# Altium footprint library XSDR.PcbLib: 30 footprints (part 1 of 2)
Each footprint in its own frame and in the unit in brackets; x right, y up, seen from the top. Pads: shape width x height; smd on the part's side, far side on the other; paste and mask are expansions set on the pad; w line width, h text height; cw(c..) or ccw(c..) is an arc to the next point about the centre after c.
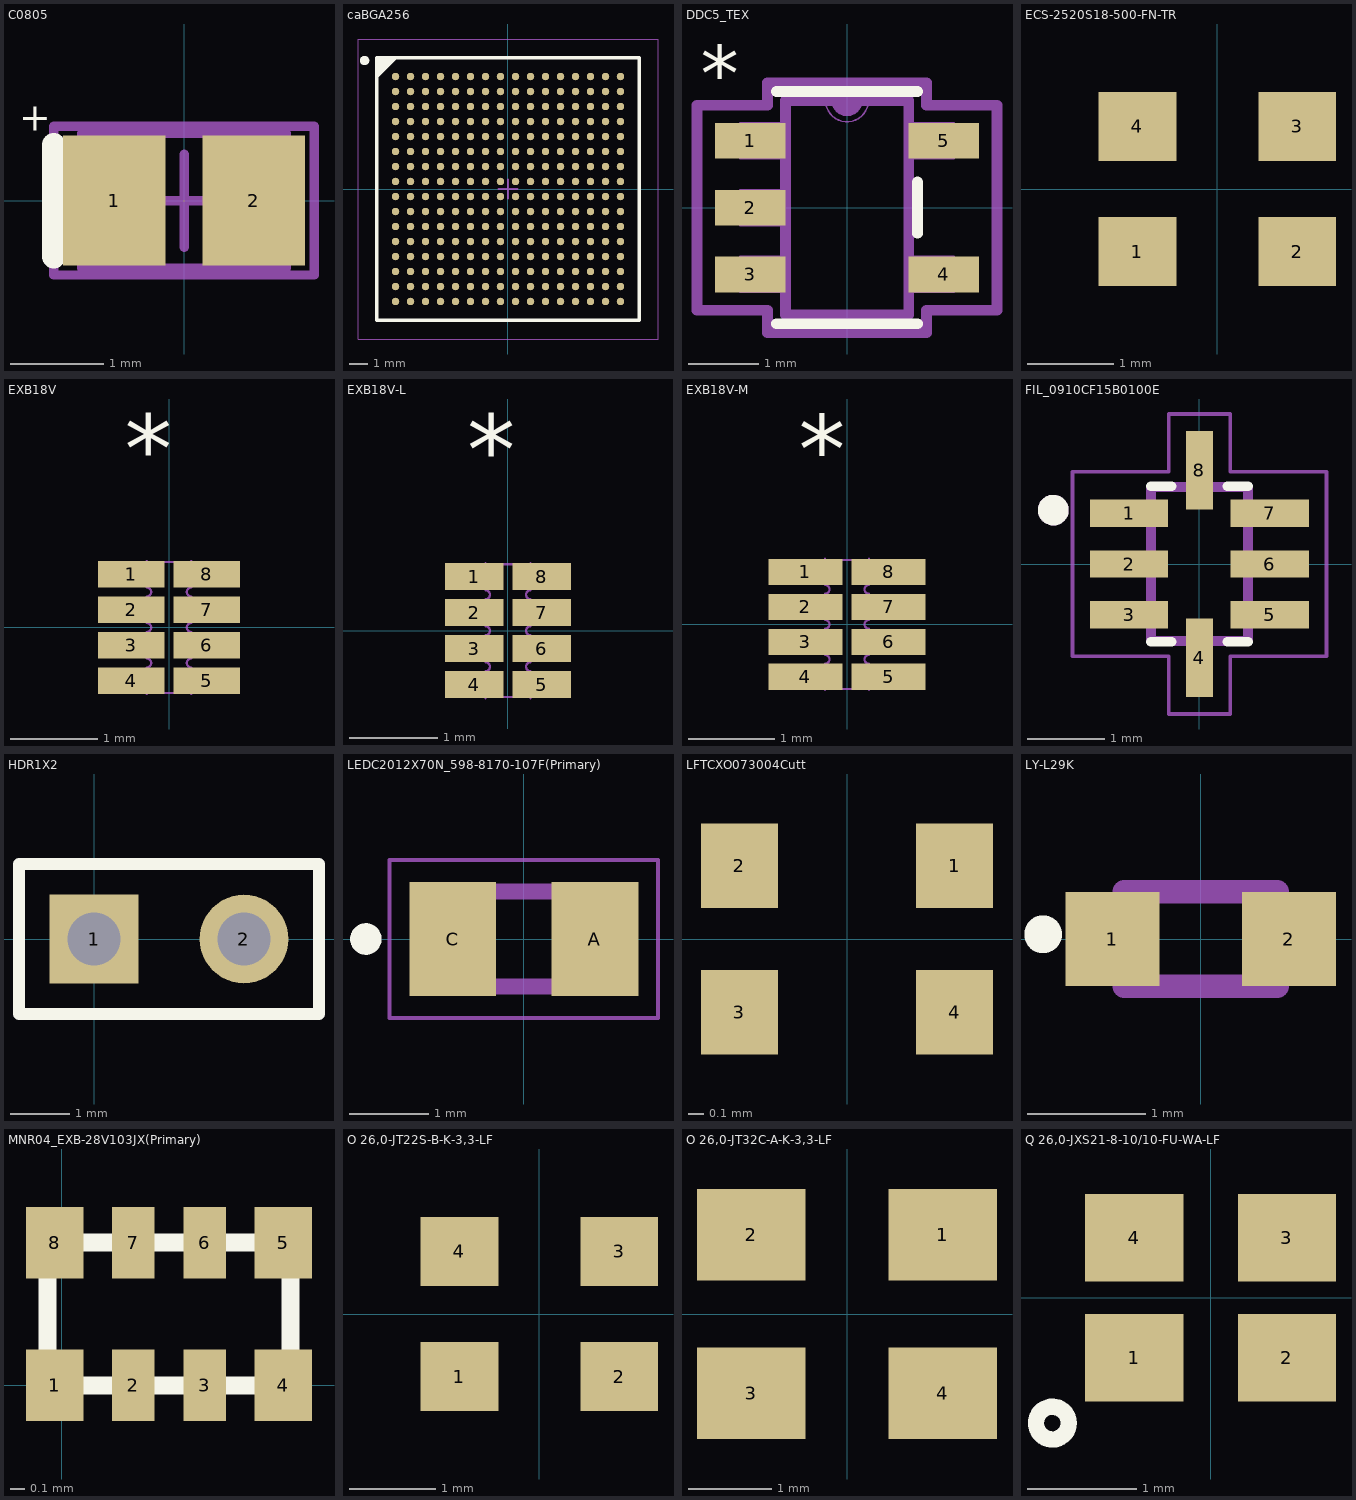
[diagram p0: the footprints below, top view; thin cyan lines are the x and y axes]

## C0805 [mm] "Chip Capacitor, Body 2.0x1.3mm, IPC High Density"
height 1.4
pads (2):
  rect 1.1x1.4 smd: 1(-0.75,0) 2(0.75,0)
Top Overlay:
  lines w0.254: -1.4,-0.6 -1.4,0.6
  text "+" at -1.775,0.75 h0.3
Mechanical 13:
  lines w0.1: -1.1,-0.725 1.1,-0.725 1.1,0.725 -1.1,0.725 -1.1,-0.725
Mechanical 15:
  lines w0.1: -0.5,0 0.5,0 ; 0,-0.5 0,0.5 ; -1.4,-0.8 1.4,-0.8 1.4,0.8 -1.4,0.8 -1.4,-0.8
3D body: height 1.4, standoff 0, extent -1.1,-0.725 1.1,0.725

## caBGA256 [mm] "256-Ball Chip Array Ball Grid Array"
height 1.7
pads (256):
  round 0.4 smd: A1(-6,6) A2(-5.2,6) A3(-4.4,6) A4(-3.6,6) A5(-2.8,6) A6(-2,6) A7(-1.2,6) A8(-0.4,6) A9(0.4,6) A10(1.2,6) A11(2,6) A12(2.8,6) A13(3.6,6) A14(4.4,6) A15(5.2,6) A16(6,6) B1(-6,5.2) B2(-5.2,5.2) B3(-4.4,5.2) B4(-3.6,5.2) B5(-2.8,5.2) B6(-2,5.2) B7(-1.2,5.2) B8(-0.4,5.2) B9(0.4,5.2) B10(1.2,5.2) B11(2,5.2) B12(2.8,5.2) B13(3.6,5.2) B14(4.4,5.2) B15(5.2,5.2) B16(6,5.2) C1(-6,4.4) C2(-5.2,4.4) C3(-4.4,4.4) C4(-3.6,4.4) C5(-2.8,4.4) C6(-2,4.4) C7(-1.2,4.4) C8(-0.4,4.4) C9(0.4,4.4) C10(1.2,4.4) C11(2,4.4) C12(2.8,4.4) C13(3.6,4.4) C14(4.4,4.4) C15(5.2,4.4) C16(6,4.4) D1(-6,3.6) D2(-5.2,3.6) D3(-4.4,3.6) D4(-3.6,3.6) D5(-2.8,3.6) D6(-2,3.6) D7(-1.2,3.6) D8(-0.4,3.6) D9(0.4,3.6) D10(1.2,3.6) D11(2,3.6) D12(2.8,3.6) D13(3.6,3.6) D14(4.4,3.6) D15(5.2,3.6) D16(6,3.6) E1(-6,2.8) E2(-5.2,2.8) E3(-4.4,2.8) E4(-3.6,2.8) E5(-2.8,2.8) E6(-2,2.8) E7(-1.2,2.8) E8(-0.4,2.8) E9(0.4,2.8) E10(1.2,2.8) E11(2,2.8) E12(2.8,2.8) E13(3.6,2.8) E14(4.4,2.8) E15(5.2,2.8) E16(6,2.8) F1(-6,2) F2(-5.2,2) F3(-4.4,2) F4(-3.6,2) F5(-2.8,2) F6(-2,2) F7(-1.2,2) F8(-0.4,2) F9(0.4,2) F10(1.2,2) F11(2,2) F12(2.8,2) F13(3.6,2) F14(4.4,2) F15(5.2,2) F16(6,2) G1(-6,1.2) G2(-5.2,1.2) G3(-4.4,1.2) G4(-3.6,1.2) G5(-2.8,1.2) G6(-2,1.2) G7(-1.2,1.2) G8(-0.4,1.2) G9(0.4,1.2) G10(1.2,1.2) G11(2,1.2) G12(2.8,1.2) G13(3.6,1.2) G14(4.4,1.2) G15(5.2,1.2) G16(6,1.2) H1(-6,0.4) H2(-5.2,0.4) H3(-4.4,0.4) H4(-3.6,0.4) H5(-2.8,0.4) H6(-2,0.4) H7(-1.2,0.4) H8(-0.4,0.4) H9(0.4,0.4) H10(1.2,0.4) H11(2,0.4) H12(2.8,0.4) H13(3.6,0.4) H14(4.4,0.4) H15(5.2,0.4) H16(6,0.4) J1(-6,-0.4) J2(-5.2,-0.4) J3(-4.4,-0.4) J4(-3.6,-0.4) J5(-2.8,-0.4) J6(-2,-0.4) J7(-1.2,-0.4) J8(-0.4,-0.4) J9(0.4,-0.4) J10(1.2,-0.4) J11(2,-0.4) J12(2.8,-0.4) J13(3.6,-0.4) J14(4.4,-0.4) J15(5.2,-0.4) J16(6,-0.4) K1(-6,-1.2) K2(-5.2,-1.2) K3(-4.4,-1.2) K4(-3.6,-1.2) K5(-2.8,-1.2) K6(-2,-1.2) K7(-1.2,-1.2) K8(-0.4,-1.2) K9(0.4,-1.2) K10(1.2,-1.2) K11(2,-1.2) K12(2.8,-1.2) K13(3.6,-1.2) K14(4.4,-1.2) K15(5.2,-1.2) K16(6,-1.2) L1(-6,-2) L2(-5.2,-2) L3(-4.4,-2) L4(-3.6,-2) L5(-2.8,-2) L6(-2,-2) L7(-1.2,-2) L8(-0.4,-2) L9(0.4,-2) L10(1.2,-2) L11(2,-2) L12(2.8,-2) L13(3.6,-2) L14(4.4,-2) L15(5.2,-2) L16(6,-2) M1(-6,-2.8) M2(-5.2,-2.8) M3(-4.4,-2.8) M4(-3.6,-2.8) M5(-2.8,-2.8) M6(-2,-2.8) M7(-1.2,-2.8) M8(-0.4,-2.8) M9(0.4,-2.8) M10(1.2,-2.8) M11(2,-2.8) M12(2.8,-2.8) M13(3.6,-2.8) M14(4.4,-2.8) M15(5.2,-2.8) M16(6,-2.8) N1(-6,-3.6) N2(-5.2,-3.6) N3(-4.4,-3.6) N4(-3.6,-3.6) N5(-2.8,-3.6) N6(-2,-3.6) N7(-1.2,-3.6) N8(-0.4,-3.6) N9(0.4,-3.6) N10(1.2,-3.6) N11(2,-3.6) N12(2.8,-3.6) N13(3.6,-3.6) N14(4.4,-3.6) N15(5.2,-3.6) N16(6,-3.6) P1(-6,-4.4) P2(-5.2,-4.4) P3(-4.4,-4.4) P4(-3.6,-4.4) P5(-2.8,-4.4) P6(-2,-4.4) P7(-1.2,-4.4) P8(-0.4,-4.4) P9(0.4,-4.4) P10(1.2,-4.4) P11(2,-4.4) P12(2.8,-4.4) P13(3.6,-4.4) P14(4.4,-4.4) P15(5.2,-4.4) P16(6,-4.4) R1(-6,-5.2) R2(-5.2,-5.2) R3(-4.4,-5.2) R4(-3.6,-5.2) R5(-2.8,-5.2) R6(-2,-5.2) R7(-1.2,-5.2) R8(-0.4,-5.2) R9(0.4,-5.2) R10(1.2,-5.2) R11(2,-5.2) R12(2.8,-5.2) R13(3.6,-5.2) R14(4.4,-5.2) R15(5.2,-5.2) R16(6,-5.2) T1(-6,-6) T2(-5.2,-6) T3(-4.4,-6) T4(-3.6,-6) T5(-2.8,-6) T6(-2,-6) T7(-1.2,-6) T8(-0.4,-6) T9(0.4,-6) T10(1.2,-6) T11(2,-6) T12(2.8,-6) T13(3.6,-6) T14(4.4,-6) T15(5.2,-6) T16(6,-6)
Top Overlay:
  circle w0.25: c-7.65,6.85 r0.125
  region: -6,7 -7,6 -7,7
  lines w0.2: -7,6 -6,7 ; -7,-7 7,-7 7,7 -7,7 -7,-7
Mechanical 13:
  lines w0.1: -7,-7 7,-7 7,7 -7,7 -7,-7
Mechanical 15:
  lines w0.05: -8,-8 8,-8 8,8 -8,8 -8,-8
  lines w0.1: -0.5,0 0.5,0 ; 0,-0.5 0,0.5
3D body: height 1.7, standoff 0, extent -7,-7 7,7

## DDC5_TEX [mil]
pads (5):
  rect 39.5x20 smd: 1(-54.25,37.4) 2(-54.25,0) 3(-54.25,-37.4) 4(54.25,-37.4) 5(54.25,37.4)
Top Overlay:
  lines w6: -39.5,-65 39.5,-65 ; -39.5,65 39.5,65 ; 39.5,-14.3 39.5,14.3
  text "*" at -82,59.61 h31.25
Mechanical 1:
  lines w1: -12,60 ccw(c0,60) 12,60 ; -60,-47.4 -60,-27.4 -34.5,-27.4 -34.5,-47.4 -60,-47.4 ; -60,-10 -60,10 -34.5,10 -34.5,-10 -60,-10 ; -60,27.4 -60,47.4 -34.5,47.4 -34.5,27.4 -60,27.4 ; -34.5,-60 34.5,-60 34.5,60 -34.5,60 -34.5,-60 ; 34.5,-47.4 34.5,-27.4 60,-27.4 60,-47.4 34.5,-47.4 ; 34.5,27.4 34.5,47.4 60,47.4 60,27.4 34.5,27.4
  text "*" at -24.5,64.4 h31.25
Mechanical 16:
  lines w6: -5.75,60 ccw(c0,60) 5.75,60 ; -84,-57.4 -44.5,-57.4 -44.5,-70 44.5,-70 44.5,-57.4 84,-57.4 84,57.4 44.5,57.4 44.5,70 -44.5,70 -44.5,57.4 -84,57.4 -84,-57.4 ; -34.5,-60 -34.5,60 34.5,60 34.5,-60 -34.5,-60

## ECS-2520S18-500-FN-TR [mm]
pads (4):
  rect 0.9x0.8 smd: 1(-0.925,-0.725) 2(0.925,-0.725) 3(0.925,0.725) 4(-0.925,0.725)
Top Overlay:
  text "." at -1.675,-1.375 h0.2
Mechanical 1:
  region: -2.1,-0.425
3D body: height 1, standoff 0, extent -1.349,-1.1 -1.15,-0.9
3D body: height 0.9, standoff 0, extent -1.475,-1.225 1.475,1.225

## EXB18V [mil]
pads (8):
  rect 30x12 smd: 1(-17,24) 2(-17,8) 3(-17,-8) 4(-17,-24) 5(17,-24) 6(17,-8) 7(17,8) 8(17,24)
Top Overlay:
  text "*" at -20,65 h31.25
Mechanical 1:
  lines w1: -10,-30 -10,-18 ccw(c-10,-16) -10,-14 -10,-2 ccw(c-10,0) -10,2 -10,14 ccw(c-10,16) -10,18 -10,30 -10,29.5 10,29.5 10,30 10,18 ccw(c10,16) 10,14 10,2 ccw(c10,0) 10,-2 10,-14 ccw(c10,-16) 10,-18 10,-30 10,-29.5 -10,-29.5 -10,-30
  text "*" at 0,50 h31.25

## EXB18V-L [mil]
pads (8):
  rect 26x12 smd: 1(-15,24) 2(-15,8) 3(-15,-8) 4(-15,-24) 5(15,-24) 6(15,-8) 7(15,8) 8(15,24)
Top Overlay:
  text "*" at -18,65 h31.25
Mechanical 1:
  lines w1: -10,-30 -10,-18 ccw(c-10,-16) -10,-14 -10,-2 ccw(c-10,0) -10,2 -10,14 ccw(c-10,16) -10,18 -10,30 -10,29.5 10,29.5 10,30 10,18 ccw(c10,16) 10,14 10,2 ccw(c10,0) 10,-2 10,-14 ccw(c10,-16) 10,-18 10,-30 10,-29.5 -10,-29.5 -10,-30
  text "*" at 0,50 h31.25

## EXB18V-M [mil]
pads (8):
  rect 34x12 smd: 1(-19,24) 2(-19,8) 3(-19,-8) 4(-19,-24) 5(19,-24) 6(19,-8) 7(19,8) 8(19,24)
Top Overlay:
  text "*" at -22,65 h31.25
Mechanical 1:
  lines w1: -10,-30 -10,-18 ccw(c-10,-16) -10,-14 -10,-2 ccw(c-10,0) -10,2 -10,14 ccw(c-10,16) -10,18 -10,30 -10,29.5 10,29.5 10,30 10,18 ccw(c10,16) 10,14 10,2 ccw(c10,0) 10,-2 10,-14 ccw(c10,-16) 10,-18 10,-30 10,-29.5 -10,-29.5 -10,-30
  text "*" at 0,50 h31.25

## FIL_0910CF15B0100E [mil] "Match with 0896BM15A0001E Balun"
pads (8):
  rect 40x14 smd: 1(-36,26) 2(-36,0) 3(-36,-26) 5(36,-26) 6(36,0) 7(36,26)
  rect 14x40 smd: 4(0,-48) 8(0,48)
Top Overlay:
  circle w7.87: c-74.8,27.56 r3.94
  lines w5: -24.8,-39.76 -14.17,-39.76 ; -24.8,39.76 -14.17,39.76 ; 14.17,-39.76 24.8,-39.76 ; 14.17,39.76 24.8,39.76
Mechanical 1:
  circle w7.87: c-74.8,27.56 r3.94
  lines w5: -24.8,-39.37 -24.8,39.37 24.8,39.37 24.8,-39.37 -24.8,-39.37
Mechanical 4:
  lines w1.97: -64.96,-47.24 -15.75,-47.24 -15.75,-76.77 15.75,-76.77 15.75,-47.24 64.96,-47.24 64.96,47.24 15.75,47.24 15.75,76.77 -15.75,76.77 -15.75,47.24 -64.96,47.24 -64.96,-47.24

## HDR1X2 [mm] "Connector; Header; 2 Position"
pads (2):
  rect 1.5x1.5 hole 0.9: 1(0,0)
  round 1.5 hole 0.9: 2(2.54,0)
Top Overlay:
  lines w0.2: -1.27,-1.27 3.81,-1.27 3.81,1.27 -1.27,1.27 -1.27,-1.27

## LEDC2012X70N_598-8170-107F(Primary) [mm]
pads (2):
  rect 1.1x1.45 smd: A(0.9,0) C(-0.9,0)
Top Overlay:
  circle w0.2: c-2,0 r0.1
Mechanical 1:
  region: -1.002,0.6 -0.5,0.6 -0.5,-0.601 -1.002,-0.601
  region: 0.501,0.6 1,0.6 1,-0.601 0.501,-0.601
  lines w0.2: -1,-0.6 1,-0.6 1,0.6 -1,0.6 -1,-0.6
Mechanical 4:
  lines w0.05: -1.7,-1 1.7,-1 1.7,1 -1.7,1 -1.7,-1

## LFTCXO073004Cutt [mm]
height 0.6
pads (4):
  rect 0.5x0.55 smd: 1(0.7,0.475) 2(-0.7,0.475) 3(-0.7,-0.475) 4(0.7,-0.475)
Top Overlay:
  text "." at 1.2,1 h0.2

## LY-L29K [mm]
pads (2):
  rect 0.8x0.8 smd: 1(-0.75,0) 2(0.75,0)
Top Overlay:
  circle w0.2: c-1.338,0.04 r0.061
Mechanical 15:
  lines w0.2: -0.65,-0.4 -0.65,0.4 0.65,0.4 0.65,-0.4 -0.65,-0.4
3D body "LED 0603 single color.stp": height 0.7, standoff -0.01, extent -0.775,-0.394 0.825,0.394

## MNR04_EXB-28V103JX(Primary) [mm]
pads (8):
  rect 0.4x0.5 smd: 1(-0.05,0) 4(1.55,0) 5(1.55,1) 8(-0.05,1)
  rect 0.3x0.5 smd: 2(0.5,0) 3(1,0) 6(1,1) 7(0.5,1)
Top Overlay:
  lines w0.127: -0.1,0 1.6,0 1.6,1 -0.1,1 -0.1,0

## O 26,0-JT22S-B-K-3,3-LF [mm]
pads (4):
  rect 0.9x0.8 smd: 1(-0.925,-0.725) 2(0.925,-0.725) 3(0.925,0.725) 4(-0.925,0.725)
Top Overlay:
  text "." at -1.675,-1.375 h0.2
Mechanical 1:
  region: -2.1,-0.425
3D body: height 1, standoff 0, extent -1.349,-1.1 -1.15,-0.9
3D body: height 0.9, standoff 0, extent -1.475,-1.225 1.475,1.225

## O 26,0-JT32C-A-K-3,3-LF [mm]
pads (4):
  rect 1.3x1.1 smd: 1(1.15,0.95) 2(-1.15,0.95) 3(-1.15,-0.95) 4(1.15,-0.95)
Top Overlay:
  text "." at 2.225,1.775 h0.2

## Q 26,0-JXS21-8-10/10-FU-WA-LF [mm] "Crystal SMD 2x1.6mm"
height 0.7
pads (4):
  rect 0.9x0.8 smd mask+0.05: 1(-0.7,-0.55) 2(0.7,-0.55) 3(0.7,0.55) 4(-0.7,0.55)
Top Overlay:
  circle w0.15: c-1.45,-1.15 r0.15
3D body: height 0.55, standoff 0, extent -1.175,-1 1.2,1